# Altium footprint library Switch-Encoder.PcbLib: 10 footprints
Each footprint in its own frame and in the unit in brackets; x right, y up, seen from the top. Pads: shape width x height; smd on the part's side, far side on the other; paste and mask are expansions set on the pad; w line width, h text height; cw(c..) or ccw(c..) is an arc to the next point about the centre after c.
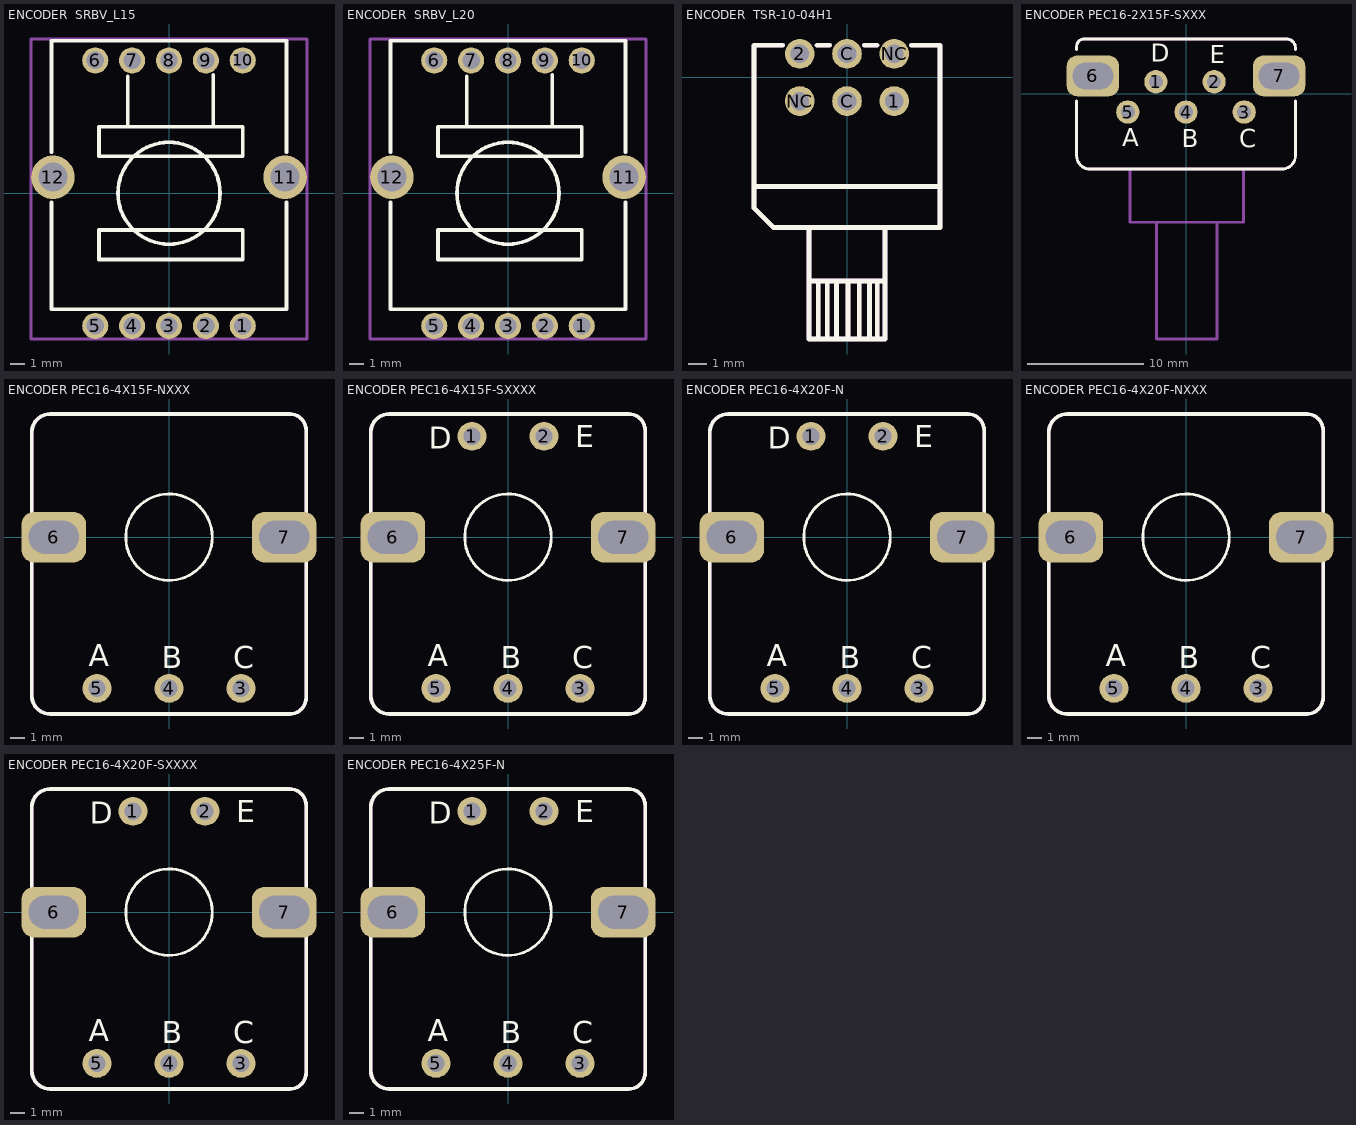
[diagram p0: the footprints below, top view; thin cyan lines are the x and y axes]

## ENCODER  SRBV_L15 [mm] "ALPSALPINE(阿尔卑斯阿尔派)  SRBV系列 L=15"
pads (12):
  round 1.8 hole 1.2: 1(5.08,-9.15) 2(2.54,-9.15) 3(0,-9.15) 4(-2.54,-9.15) 5(-5.08,-9.15) 6(-5.08,9.15) 7(-2.54,9.15) 8(0,9.15) 9(2.54,9.15) 10(5.08,9.15)
  round 3 hole 2: 11(8,1.1) 12(-8,1.1)
Top Overlay:
  circle w0.254: c0,0 r3.513
  lines w0.254: -8.1,-0.628 -8.1,-8 8.1,-8 8.1,-0.628 ; -8.1,2.828 -8.1,10.5 8.1,10.5 8.1,2.828 ; -2.846,4.572 -2.846,8.061 ; 3.048,4.572 3.048,8.14 ; -4.826,-4.572 5.08,-4.572 5.08,-2.54 -4.826,-2.54 -4.826,-4.572 ; -4.826,2.54 5.08,2.54 5.08,4.572 -4.826,4.572 -4.826,2.54
Top Value:
  text "'.Comment'" at -4.314,-0.581 h2
Top Designator:
  text "'.Designator'" at -5.721,-0.419 h2
Top Assembly (Mech20):
  drawing of 16 lines, arcs and shapes, not listed
  text "1" at 4.133,-7.901 h2
3D body "SRBV-L15.step": height 22.5, standoff -4, extent -9.106,-9.35 9.106,10.5

## ENCODER  SRBV_L20 [mm] "ALPSALPINE(阿尔卑斯阿尔派)  SRBV系列 L=20"
pads (12):
  round 1.8 hole 1.2: 1(5.08,-9.15) 2(2.54,-9.15) 3(0,-9.15) 4(-2.54,-9.15) 5(-5.08,-9.15) 6(-5.08,9.15) 7(-2.54,9.15) 8(0,9.15) 9(2.54,9.15) 10(5.08,9.15)
  round 3 hole 2: 11(8,1.1) 12(-8,1.1)
Top Overlay:
  circle w0.254: c0,0 r3.513
  lines w0.254: -8.1,-0.628 -8.1,-8 8.1,-8 8.1,-0.628 ; -8.1,2.828 -8.1,10.5 8.1,10.5 8.1,2.828 ; -2.846,4.572 -2.846,8.061 ; 3.048,4.572 3.048,8.14 ; -4.826,-4.572 -4.826,-2.54 5.08,-2.54 5.08,-4.572 -4.826,-4.572 ; -4.826,2.54 -4.826,4.572 5.08,4.572 5.08,2.54 -4.826,2.54
Top Value:
  text "'.Comment'" at -4.314,-0.581 h2
Top Designator:
  text "'.Designator'" at -5.721,-0.419 h2
Top Assembly (Mech20):
  drawing of 16 lines, arcs and shapes, not listed
  text "1" at 4.133,-7.901 h2
3D body "SRBV-L20.step": height 27.55, standoff -3.95, extent -9.106,-9.35 9.106,10.5

## ENCODER  TSR-10-04H1 [mm] "旋转编码器 4裆"
pads (6):
  round 1.6 hole 1: 1(2.54,-1.27) 2(-2.54,1.27) C(0,-1.27) C(0,1.27) NC(-2.54,-1.27) NC(2.54,1.27)
Top Overlay:
  lines w0.254: -5,-5.87 5,-5.87 ; -3.463,1.73 -5,1.73 -5,-7.037 -3.967,-8.07 5,-8.07 5,1.73 3.463,1.73 ; -2.05,-10.949 2.05,-10.949 ; -2.05,-8.07 -2.05,-14.07 2.05,-14.07 2.05,-8.07 ; -1.617,1.73 -0.923,1.73 ; -1.552,-14.07 -1.552,-10.949 ; -1.07,-14.07 -1.07,-10.949 ; -0.562,-14.07 -0.562,-10.949 ; 0.048,-14.07 0.048,-10.949 ; 0.658,-14.07 0.658,-10.949 ; 0.923,1.73 1.617,1.73 ; 1.216,-14.07 1.216,-10.949 ; 1.623,-14.07 1.623,-10.949
Top Value:
  text "'.Comment'" at -4.314,-0.581 h2
Top Designator:
  text "'.Designator'" at -5.721,-0.419 h2
Top Assembly (Mech20):
  lines w0.254: -5,-5.87 5,-5.87 ; -3.463,1.73 -5,1.73 -5,-7.037 -3.967,-8.07 5,-8.07 5,1.73 3.463,1.73 ; -2.05,-10.949 2.05,-10.949 ; -2.05,-8.07 -2.05,-14.07 2.05,-14.07 2.05,-8.07 ; -1.617,1.73 -0.923,1.73 ; -1.552,-14.07 -1.552,-10.949 ; -1.07,-14.07 -1.07,-10.949 ; -0.562,-14.07 -0.562,-10.949 ; 0.048,-14.07 0.048,-10.949 ; 0.658,-14.07 0.658,-10.949 ; 0.923,1.73 1.617,1.73 ; 1.216,-14.07 1.216,-10.949 ; 1.623,-14.07 1.623,-10.949
3D body "TSR-04H1.step": height 10.08, standoff -3.42, extent -5,-14.225 5,1.876

## ENCODER PEC16-2X15F-SXXX [mm] "Encoder PEC16-2X15F-SXXX"
pads (7):
  round 2 hole 1.2: 1(-2.587,1.05) 2(2.413,1.05) 3(5,-1.55) 4(0,-1.55) 5(-5,-1.55)
  rrect50% 4.5x3.5 hole 2.3 slot 3.5 at 0 deg: 6(-8,1.55) 7(8,1.55)
Top Overlay:
  lines w0.25: -9.397,-0.609 ccw(c-9.397,-0.61) -9.398,-0.61 -9.398,-5.308 ccw(c-8.254,-5.308) -8.254,-6.452 ; -9.397,3.836 -9.397,4.09 cw(c-8.762,4.09) -8.762,4.725 8.637,4.725 cw(c8.637,3.963) 9.399,3.963 9.399,3.836 ; 8.255,-6.45 ccw(c8.255,-5.306) 9.399,-5.306 9.399,-0.609
  lines w0.254: -8.255,-6.45 8.255,-6.45
  text "E" at 2.032,2.641 h1.52
  text "D" at -3.048,2.768 h1.52
  text "C" at 4.572,-4.598 h1.52
  text "B" at -0.381,-4.598 h1.52
  text "A" at -5.461,-4.471 h1.52
Top Value:
  text "'.Comment'" at -4.187,-2.017 h2
Top Designator:
  text "'.Designator'" at -5.594,-1.855 h2
Top Assembly (Mech20):
  lines w0.25: -9.397,-0.609 ccw(c-9.397,-0.61) -9.398,-0.61 -9.398,-5.308 ccw(c-8.254,-5.308) -8.254,-6.452 ; -9.397,3.836 -9.397,4.09 cw(c-8.762,4.09) -8.762,4.725 8.637,4.725 cw(c8.637,3.963) 9.399,3.963 9.399,3.836 ; -4.825,-6.451 -4.825,-11.023 4.954,-11.023 4.954,-6.451 ; -2.539,-11.023 -2.539,-21.056 2.668,-21.056 2.668,-11.023 ; 8.255,-6.45 ccw(c8.255,-5.306) 9.399,-5.306 9.399,-0.609
  lines w0.254: -8.255,-6.45 8.255,-6.45
  text "E" at 2.032,2.641 h1.52
  text "D" at -3.048,2.768 h1.52
  text "C" at 4.572,-4.598 h1.52
  text "B" at -0.381,-4.598 h1.52
  text "A" at -5.461,-4.471 h1.52
3D body "PEC16-2X15F-SXXXX.stp": height 20.7, standoff -3.6, extent -8.05,-20.99 8.05,4.66

## ENCODER PEC16-4X15F-NXXX [mm] "Encoder PEC16-4215F-S0024 螺杆长度15mm"
pads (5):
  round 2 hole 1.2: 3(5,-10.5) 4(0,-10.5) 5(-5,-10.5)
  rrect50% 4.5x3.5 hole 2.3 slot 3.5 at 0 deg: 6(-8,0) 7(8,0)
Top Overlay:
  circle w0.2: c0,0 r3
  lines w0.254: -9.525,-11.008 ccw(c-8.255,-11.008) -8.255,-12.278 8.255,-12.278 8.382,-12.278 ccw(c8.382,-11.135) 9.525,-11.135 9.525,-10.5 9.525,7.407 ccw(c8.382,7.407) 8.382,8.55 -8.255,8.55 ccw(c-8.255,7.28) -9.525,7.28 -9.525,-10.5 -9.525,-11.008
  text "A" at -5.588,-8.976 h1.52
  text "B" at -0.508,-9.103 h1.52
  text "C" at 4.445,-9.103 h1.52
Top Value:
  text "'.Comment'" at -4.314,-2.331 h2
Top Designator:
  text "'.Designator'" at -5.721,-2.169 h2
Top Assembly (Mech20):
  lines w0.254: -9.525,-11.008 ccw(c-8.255,-11.008) -8.255,-12.278 8.255,-12.278 8.382,-12.278 ccw(c8.382,-11.135) 9.525,-11.135 9.525,-10.5 9.525,7.407 ccw(c8.382,7.407) 8.382,8.55 -8.255,8.55 ccw(c-8.255,7.28) -9.525,7.28 -9.525,-10.5 -9.525,-11.008
  text "A" at -5.588,-8.976 h1.52
  text "B" at -0.508,-9.103 h1.52
  text "C" at 4.445,-9.103 h1.52
3D body "PEC16-4015F-N0024.stp": height 21.5, standoff -4, extent -8.849,-12.499 8.851,8.301

## ENCODER PEC16-4X15F-SXXXX [mm] "Encoder PEC16-4215F 螺杆长度15mm"
pads (7):
  round 2 hole 1.2: 1(-2.5,7) 2(2.5,7) 3(5,-10.5) 4(0,-10.5) 5(-5,-10.5)
  rrect50% 4.5x3.5 hole 2.3 slot 3.5 at 0 deg: 6(-8,0) 7(8,0)
Top Overlay:
  circle w0.2: c0,0 r3
  lines w0.254: -9.525,-11.008 ccw(c-8.255,-11.008) -8.255,-12.278 8.255,-12.278 8.382,-12.278 ccw(c8.382,-11.135) 9.525,-11.135 9.525,-10.5 9.525,7.407 ccw(c8.382,7.407) 8.382,8.55 -8.255,8.55 ccw(c-8.255,7.28) -9.525,7.28 -9.525,-10.5 -9.525,-11.008
  text "E" at 4.673,6.228 h1.52
  text "D" at -5.508,6.127 h1.52
  text "C" at 4.445,-9.103 h1.52
  text "B" at -0.508,-9.103 h1.52
  text "A" at -5.588,-8.976 h1.52
Top Value:
  text "'.Comment'" at -4.314,-2.331 h2
Top Designator:
  text "'.Designator'" at -5.721,-2.169 h2
Top Assembly (Mech20):
  lines w0.254: -9.525,-11.008 ccw(c-8.255,-11.008) -8.255,-12.278 8.255,-12.278 8.382,-12.278 ccw(c8.382,-11.135) 9.525,-11.135 9.525,-10.5 9.525,7.407 ccw(c8.382,7.407) 8.382,8.55 -8.255,8.55 ccw(c-8.255,7.28) -9.525,7.28 -9.525,-10.5 -9.525,-11.008
  text "E" at 4.673,6.228 h1.52
  text "D" at -5.508,6.127 h1.52
  text "C" at 4.445,-9.103 h1.52
  text "B" at -0.508,-9.103 h1.52
  text "A" at -5.588,-8.976 h1.52
3D body "PEC16-4X15F-SXXXX.step": height 23, standoff -3.5, extent -8.785,-12.5 8.913,8.3

## ENCODER PEC16-4X20F-N [mm] "Encoder PEC16-4220F-S0024 螺杆长度20mm"
pads (7):
  round 2 hole 1.2: 1(-2.5,7) 2(2.5,7) 3(5,-10.5) 4(0,-10.5) 5(-5,-10.5)
  rrect50% 4.5x3.5 hole 2.3 slot 3.5 at 0 deg: 6(-8,0) 7(8,0)
Top Overlay:
  circle w0.2: c0,0 r3
  lines w0.254: -9.525,-11.008 ccw(c-8.255,-11.008) -8.255,-12.278 8.255,-12.278 8.382,-12.278 ccw(c8.382,-11.135) 9.525,-11.135 9.525,-10.5 9.525,7.407 ccw(c8.382,7.407) 8.382,8.55 -8.255,8.55 ccw(c-8.255,7.28) -9.525,7.28 -9.525,-10.5 -9.525,-11.008
  text "E" at 4.673,6.228 h1.52
  text "D" at -5.508,6.127 h1.52
  text "C" at 4.445,-9.103 h1.52
  text "B" at -0.508,-9.103 h1.52
  text "A" at -5.588,-8.976 h1.52
Top Value:
  text "'.Comment'" at -4.314,-2.331 h2
Top Designator:
  text "'.Designator'" at -5.721,-2.169 h2
Top Assembly (Mech20):
  lines w0.254: -9.525,-11.008 ccw(c-8.255,-11.008) -8.255,-12.278 8.255,-12.278 8.382,-12.278 ccw(c8.382,-11.135) 9.525,-11.135 9.525,-10.5 9.525,7.407 ccw(c8.382,7.407) 8.382,8.55 -8.255,8.55 ccw(c-8.255,7.28) -9.525,7.28 -9.525,-10.5 -9.525,-11.008
  text "E" at 4.673,6.228 h1.52
  text "D" at -5.508,6.127 h1.52
  text "C" at 4.445,-9.103 h1.52
  text "B" at -0.508,-9.103 h1.52
  text "A" at -5.588,-8.976 h1.52
3D body "PEC16-4220F-N0024.stp": height 26.55, standoff -4, extent -8.85,-12.35 8.85,8.35

## ENCODER PEC16-4X20F-NXXX [mm] "Encoder PEC16-4220F-S0024 螺杆长度20mm"
pads (5):
  round 2 hole 1.2: 3(5,-10.5) 4(0,-10.5) 5(-5,-10.5)
  rrect50% 4.5x3.5 hole 2.3 slot 3.5 at 0 deg: 6(-8,0) 7(8,0)
Top Overlay:
  circle w0.2: c0,0 r3
  lines w0.254: -9.525,-11.008 ccw(c-8.255,-11.008) -8.255,-12.278 8.255,-12.278 8.382,-12.278 ccw(c8.382,-11.135) 9.525,-11.135 9.525,-10.5 9.525,7.407 ccw(c8.382,7.407) 8.382,8.55 -8.255,8.55 ccw(c-8.255,7.28) -9.525,7.28 -9.525,-10.5 -9.525,-11.008
  text "C" at 4.445,-9.103 h1.52
  text "B" at -0.508,-9.103 h1.52
  text "A" at -5.588,-8.976 h1.52
Top Value:
  text "'.Comment'" at -4.314,-2.331 h2
Top Designator:
  text "'.Designator'" at -5.721,-2.169 h2
Top Assembly (Mech20):
  lines w0.254: -9.525,-11.008 ccw(c-8.255,-11.008) -8.255,-12.278 8.255,-12.278 8.382,-12.278 ccw(c8.382,-11.135) 9.525,-11.135 9.525,-10.5 9.525,7.407 ccw(c8.382,7.407) 8.382,8.55 -8.255,8.55 ccw(c-8.255,7.28) -9.525,7.28 -9.525,-10.5 -9.525,-11.008
  text "C" at 4.445,-9.103 h1.52
  text "B" at -0.508,-9.103 h1.52
  text "A" at -5.588,-8.976 h1.52
3D body "PEC16-4220F-N0024.stp": height 26.5, standoff -4.05, extent -8.85,-12.4 8.85,8.3

## ENCODER PEC16-4X20F-SXXXX [mm] "Encoder PEC16-4220F-S0024 螺杆长度20mm"
pads (7):
  round 2 hole 1.2: 1(-2.5,7) 2(2.5,7) 3(5,-10.5) 4(0,-10.5) 5(-5,-10.5)
  rrect50% 4.5x3.5 hole 2.3 slot 3.5 at 0 deg: 6(-8,0) 7(8,0)
Top Overlay:
  circle w0.2: c0,0 r3
  lines w0.254: -9.525,-11.008 ccw(c-8.255,-11.008) -8.255,-12.278 8.255,-12.278 8.382,-12.278 ccw(c8.382,-11.135) 9.525,-11.135 9.525,-10.5 9.525,7.407 ccw(c8.382,7.407) 8.382,8.55 -8.255,8.55 ccw(c-8.255,7.28) -9.525,7.28 -9.525,-10.5 -9.525,-11.008
  text "A" at -5.588,-8.976 h1.52
  text "B" at -0.508,-9.103 h1.52
  text "C" at 4.445,-9.103 h1.52
  text "D" at -5.508,6.127 h1.52
  text "E" at 4.673,6.228 h1.52
Top Value:
  text "'.Comment'" at -4.314,-2.331 h2
Top Designator:
  text "'.Designator'" at -5.721,-2.169 h2
Top Assembly (Mech20):
  lines w0.254: -9.525,-11.008 ccw(c-8.255,-11.008) -8.255,-12.278 8.255,-12.278 8.382,-12.278 ccw(c8.382,-11.135) 9.525,-11.135 9.525,-10.5 9.525,7.407 ccw(c8.382,7.407) 8.382,8.55 -8.255,8.55 ccw(c-8.255,7.28) -9.525,7.28 -9.525,-10.5 -9.525,-11.008
  text "A" at -5.588,-8.976 h1.52
  text "B" at -0.508,-9.103 h1.52
  text "C" at 4.445,-9.103 h1.52
  text "D" at -5.508,6.127 h1.52
  text "E" at 4.673,6.228 h1.52
3D body "PEC16-4X20F-SXXXX.stp": height 28, standoff -4.6, extent -8.846,-12.35 8.846,8.35

## ENCODER PEC16-4X25F-N [mm] "Encoder PEC16-4X25F-NXXXX 螺杆长度15mm"
pads (7):
  round 2 hole 1.2: 1(-2.5,7) 2(2.5,7) 3(5,-10.5) 4(0,-10.5) 5(-5,-10.5)
  rrect50% 4.5x3.5 hole 2.3 slot 3.5 at 0 deg: 6(-8,0) 7(8,0)
Top Overlay:
  circle w0.2: c0,0 r3
  lines w0.254: -9.525,-11.008 ccw(c-8.255,-11.008) -8.255,-12.278 8.255,-12.278 8.382,-12.278 ccw(c8.382,-11.135) 9.525,-11.135 9.525,-10.5 9.525,7.407 ccw(c8.382,7.407) 8.382,8.55 -8.255,8.55 ccw(c-8.255,7.28) -9.525,7.28 -9.525,-10.5 -9.525,-11.008
  text "E" at 4.673,6.228 h1.52
  text "D" at -5.508,6.127 h1.52
  text "C" at 4.445,-9.103 h1.52
  text "B" at -0.508,-9.103 h1.52
  text "A" at -5.588,-8.976 h1.52
Top Value:
  text "'.Comment'" at -4.314,-2.331 h2
Top Designator:
  text "'.Designator'" at -5.721,-2.169 h2
Top Assembly (Mech20):
  lines w0.254: -9.525,-11.008 ccw(c-8.255,-11.008) -8.255,-12.278 8.255,-12.278 8.382,-12.278 ccw(c8.382,-11.135) 9.525,-11.135 9.525,-10.5 9.525,7.407 ccw(c8.382,7.407) 8.382,8.55 -8.255,8.55 ccw(c-8.255,7.28) -9.525,7.28 -9.525,-10.5 -9.525,-11.008
  text "E" at 4.673,6.228 h1.52
  text "D" at -5.508,6.127 h1.52
  text "C" at 4.445,-9.103 h1.52
  text "B" at -0.508,-9.103 h1.52
  text "A" at -5.588,-8.976 h1.52
3D body "PEC16-4X25F-NXXXX.stp": height 31.5, standoff -4.05, extent -8.848,-12.245 8.848,8.455